# Altium integrated library Altium_WE-XTAL (rev21a).IntLib: 324 symbols (part 1 of 5)
Pins are listed as number, name and electrical type; pins without a type are passive.

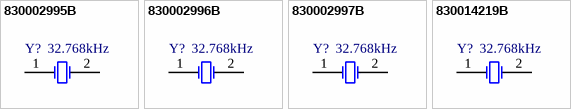
[diagram p0: symbols 830002995B to 830014219B]

## 830002995B
designator Y?, comment 32.768kHz
WE-XTAL Watch Crystal, THT, WATCH, 32.768kHz, +/-20ppm; Manufacturer Part Number: 830002995B; Manufacturer: Wurth Elektronik; Load Capacitance: 12.5pF; ComponentLink1Description: Manufacturer; ComponentLink1URL: http://www.we-online.de; ComponentLink2Description: Datasheet; ComponentLink2URL: https://katalog.we-online.com/pbs/datasheet/830002995B.pdf; Operating Temperature: -40 to +85degC; Packaging: Bulk; Published Date: July 2020; Size: WATCH; Frequency Stability: -; Frequency: 32.768kHz; Frequency Tolerance: +/-20ppm; Mounting Technology: THT
footprint WE-XTAL_WATCH_830002995B
pins: 1 OSC1, 2 OSC2

## 830002996B
designator Y?, comment 32.768kHz
WE-XTAL Watch Crystal, THT, WATCH, 32.768kHz, +/-15ppm; Manufacturer Part Number: 830002996B; Manufacturer: Wurth Elektronik; Load Capacitance: 12.5pF; ComponentLink1Description: Manufacturer; ComponentLink1URL: http://www.we-online.de; ComponentLink2Description: Datasheet; ComponentLink2URL: https://katalog.we-online.com/pbs/datasheet/830002996B.pdf; Operating Temperature: -40 to +85degC; Packaging: Bulk; Published Date: July 2020; Size: WATCH; Frequency Stability: -; Frequency: 32.768kHz; Frequency Tolerance: +/-15ppm; Mounting Technology: THT
footprint WE-XTAL_WATCH_830002996B
pins: 1 OSC1, 2 OSC2

## 830002997B
designator Y?, comment 32.768kHz
WE-XTAL Watch Crystal, THT, WATCH, 32.768kHz, +/-20ppm; Manufacturer Part Number: 830002997B; Manufacturer: Wurth Elektronik; Load Capacitance: 12.5pF; ComponentLink1Description: Manufacturer; ComponentLink1URL: http://www.we-online.de; ComponentLink2Description: Datasheet; ComponentLink2URL: https://katalog.we-online.com/pbs/datasheet/830002997B.pdf; Operating Temperature: -40 to +85degC; Packaging: Bulk; Published Date: July 2020; Size: WATCH; Frequency Stability: -; Frequency: 32.768kHz; Frequency Tolerance: +/-20ppm; Mounting Technology: THT
footprint WE-XTAL_WATCH_830002997B
pins: 1 OSC1, 2 OSC2

## 830014219B
designator Y?, comment 32.768kHz
WE-XTAL Watch Crystal, THT, WATCH, 32.768kHz, +/-20ppm; Manufacturer Part Number: 830014219B; Manufacturer: Wurth Elektronik; Load Capacitance: 6pF; ComponentLink1Description: Manufacturer; ComponentLink1URL: http://www.we-online.de; ComponentLink2Description: Datasheet; ComponentLink2URL: https://katalog.we-online.com/pbs/datasheet/830014219B.pdf; Operating Temperature: -40 to +85degC; Packaging: Bulk; Published Date: July 2020; Size: WATCH; Frequency Stability: -; Frequency: 32.768kHz; Frequency Tolerance: +/-20ppm; Mounting Technology: THT
footprint WE-XTAL_WATCH_830014219B (Quartz Crystal, size WATCH, body diameter 2mm)
pins: 1 OSC1, 2 OSC2


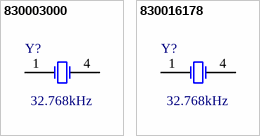
[diagram p1: symbols 830003000 to 830016178]

## 830003000
designator Y?, comment 32.768kHz
WE-XTAL Watch Crystal, SMT, 85SMX, 32.768kHz, +/-20ppm; Manufacturer Part Number: 830003000; Manufacturer: Wurth Elektronik; Load Capacitance: 12.5pF; ComponentLink1Description: Manufacturer; ComponentLink1URL: http://www.we-online.de; ComponentLink2Description: Datasheet; ComponentLink2URL: https://katalog.we-online.com/pbs/datasheet/830003000.pdf; Operating Temperature: -40 to +85degC; Packaging: Tape and Reel; Published Date: July 2020; Size: 85SMX; Frequency Stability: -; Frequency: 32.768kHz; Frequency Tolerance: +/-20ppm; Mounting Technology: SMT
footprint WE-XTAL_85SMX (Quartz Crystal, size 85SMX, body 8.7x3.2mm)
pins: 1 Crystal, 4 Crystal

## 830016178
designator Y?, comment 32.768kHz
WE-XTAL Watch Crystal, SMT, 85SMX, 32.768kHz, +/-20ppm; Manufacturer Part Number: 830016178; Manufacturer: Wurth Elektronik; Load Capacitance: 6pF; ComponentLink1Description: Manufacturer; ComponentLink1URL: http://www.we-online.de; ComponentLink2Description: Datasheet; ComponentLink2URL: https://katalog.we-online.com/pbs/datasheet/830016178.pdf; Operating Temperature: -40 to +85degC; Packaging: Tape and Reel; Published Date: July 2020; Size: 85SMX; Frequency Stability: -; Frequency: 32.768kHz; Frequency Tolerance: +/-20ppm; Mounting Technology: SMT
footprint WE-XTAL_85SMX
pins: 1 Crystal, 4 Crystal


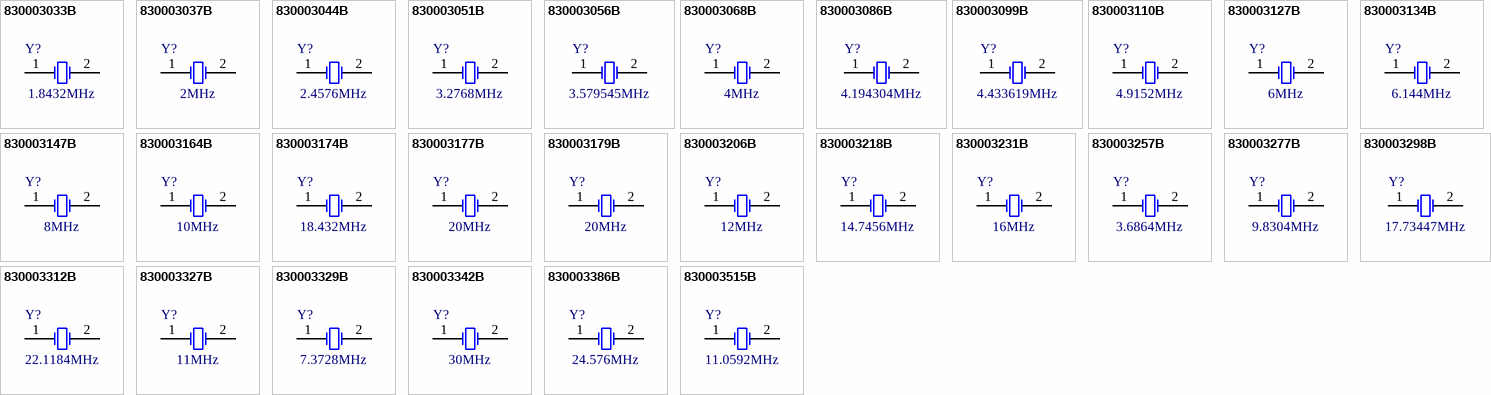
[diagram p2: symbols 830003033B to 830003515B]

## 830003033B
designator Y?, comment 1.8432MHz
WE-XTAL Quartz Crystal, THT, HC49, 1.8432MHz, +/-20ppm; Manufacturer Part Number: 830003033B; Manufacturer: Wurth Elektronik; Frequency Stability: +/-50ppm; Load Capacitance: 30pF; ComponentLink1Description: Manufacturer; ComponentLink1URL: http://www.we-online.de; ComponentLink2Description: Datasheet; ComponentLink2URL: https://katalog.we-online.com/pbs/datasheet/830003033B.pdf; Operating Temperature: -10 to +60degC; Packaging: Bulk; Published Date: July 2020; Size: HC49; Frequency: 1.8432MHz; Frequency Tolerance: +/-20ppm; Mounting Technology: THT
footprint WE-XTAL_HC49
pins: 1 OSC1, 2 OSC2

## 830003037B
designator Y?, comment 2MHz
WE-XTAL Quartz Crystal, THT, HC49, 2MHz, +/-50ppm; Manufacturer Part Number: 830003037B; Manufacturer: Wurth Elektronik; Frequency Stability: +/-100ppm; Load Capacitance: 20pF; ComponentLink1Description: Manufacturer; ComponentLink1URL: http://www.we-online.de; ComponentLink2Description: Datasheet; ComponentLink2URL: https://katalog.we-online.com/pbs/datasheet/830003037B.pdf; Operating Temperature: 0 to +50degC; Packaging: Bulk; Published Date: July 2020; Size: HC49; Frequency: 2MHz; Frequency Tolerance: +/-50ppm; Mounting Technology: THT
footprint WE-XTAL_HC49
pins: 1 OSC1, 2 OSC2

## 830003044B
designator Y?, comment 2.4576MHz
WE-XTAL Quartz Crystal, THT, HC49, 2.4576MHz, +/-20ppm; Manufacturer Part Number: 830003044B; Manufacturer: Wurth Elektronik; Frequency Stability: +/-50ppm; Load Capacitance: 30pF; ComponentLink1Description: Manufacturer; ComponentLink1URL: http://www.we-online.de; ComponentLink2Description: Datasheet; ComponentLink2URL: https://katalog.we-online.com/pbs/datasheet/830003044B.pdf; Operating Temperature: -10 to +60degC; Packaging: Bulk; Published Date: July 2020; Size: HC49; Frequency: 2.4576MHz; Frequency Tolerance: +/-20ppm; Mounting Technology: THT
footprint WE-XTAL_HC49
pins: 1 OSC1, 2 OSC2

## 830003051B
designator Y?, comment 3.2768MHz
WE-XTAL Quartz Crystal, THT, HC49, 3.2768MHz, +/-20ppm; Manufacturer Part Number: 830003051B; Manufacturer: Wurth Elektronik; Frequency Stability: +/-30ppm; Load Capacitance: 12pF; ComponentLink1Description: Manufacturer; ComponentLink1URL: http://www.we-online.de; ComponentLink2Description: Datasheet; ComponentLink2URL: https://katalog.we-online.com/pbs/datasheet/830003051B.pdf; Operating Temperature: -10 to +60degC; Packaging: Bulk; Published Date: July 2020; Size: HC49; Frequency: 3.2768MHz; Frequency Tolerance: +/-20ppm; Mounting Technology: THT
footprint WE-XTAL_HC49
pins: 1 OSC1, 2 OSC2

## 830003056B
designator Y?, comment 3.579545MHz
WE-XTAL Quartz Crystal, THT, HC49, 3.579545MHz, +/-20ppm; Manufacturer Part Number: 830003056B; Manufacturer: Wurth Elektronik; Frequency Stability: +/-50ppm; Load Capacitance: 20pF; ComponentLink1Description: Manufacturer; ComponentLink1URL: http://www.we-online.de; ComponentLink2Description: Datasheet; ComponentLink2URL: https://katalog.we-online.com/pbs/datasheet/830003056B.pdf; Operating Temperature: -10 to +60degC; Packaging: Bulk; Published Date: July 2020; Size: HC49; Frequency: 3.579545MHz; Frequency Tolerance: +/-20ppm; Mounting Technology: THT
footprint WE-XTAL_HC49
pins: 1 OSC1, 2 OSC2

## 830003068B
designator Y?, comment 4MHz
WE-XTAL Quartz Crystal, THT, HC49, 4MHz, +/-20ppm; Manufacturer Part Number: 830003068B; Manufacturer: Wurth Elektronik; Frequency Stability: +/-50ppm; Load Capacitance: 30pF; ComponentLink1Description: Manufacturer; ComponentLink1URL: http://www.we-online.de; ComponentLink2Description: Datasheet; ComponentLink2URL: https://katalog.we-online.com/pbs/datasheet/830003068B.pdf; Operating Temperature: -10 to +60degC; Packaging: Bulk; Published Date: July 2020; Size: HC49; Frequency: 4MHz; Frequency Tolerance: +/-20ppm; Mounting Technology: THT
footprint WE-XTAL_HC49
pins: 1 OSC1, 2 OSC2

## 830003086B
designator Y?, comment 4.194304MHz
WE-XTAL Quartz Crystal, THT, HC49, 4.194304MHz, +/-20ppm; Manufacturer Part Number: 830003086B; Manufacturer: Wurth Elektronik; Frequency Stability: +/-30ppm; Load Capacitance: 12pF; ComponentLink1Description: Manufacturer; ComponentLink1URL: http://www.we-online.de; ComponentLink2Description: Datasheet; ComponentLink2URL: https://katalog.we-online.com/pbs/datasheet/830003086B.pdf; Operating Temperature: -10 to +60degC; Packaging: Bulk; Published Date: July 2020; Size: HC49; Frequency: 4.194304MHz; Frequency Tolerance: +/-20ppm; Mounting Technology: THT
footprint WE-XTAL_HC49
pins: 1 OSC1, 2 OSC2

## 830003099B
designator Y?, comment 4.433619MHz
WE-XTAL Quartz Crystal, THT, HC49, 4.433619MHz, +/-20ppm; Manufacturer Part Number: 830003099B; Manufacturer: Wurth Elektronik; Frequency Stability: +/-30ppm; Load Capacitance: 20pF; ComponentLink1Description: Manufacturer; ComponentLink1URL: http://www.we-online.de; ComponentLink2Description: Datasheet; ComponentLink2URL: https://katalog.we-online.com/pbs/datasheet/830003099B.pdf; Operating Temperature: -10 to +60degC; Packaging: Bulk; Published Date: July 2020; Size: HC49; Frequency: 4.433619MHz; Frequency Tolerance: +/-20ppm; Mounting Technology: THT
footprint WE-XTAL_HC49
pins: 1 OSC1, 2 OSC2

## 830003110B
designator Y?, comment 4.9152MHz
WE-XTAL Quartz Crystal, THT, HC49, 4.9152MHz, +/-20ppm; Manufacturer Part Number: 830003110B; Manufacturer: Wurth Elektronik; Frequency Stability: +/-50ppm; Load Capacitance: 30pF; ComponentLink1Description: Manufacturer; ComponentLink1URL: http://www.we-online.de; ComponentLink2Description: Datasheet; ComponentLink2URL: https://katalog.we-online.com/pbs/datasheet/830003110B.pdf; Operating Temperature: -10 to +60degC; Packaging: Bulk; Published Date: July 2020; Size: HC49; Frequency: 4.9152MHz; Frequency Tolerance: +/-20ppm; Mounting Technology: THT
footprint WE-XTAL_HC49
pins: 1 OSC1, 2 OSC2

## 830003127B
designator Y?, comment 6MHz
WE-XTAL Quartz Crystal, THT, HC49, 6MHz, +/-20ppm; Manufacturer Part Number: 830003127B; Manufacturer: Wurth Elektronik; Frequency Stability: +/-50ppm; Load Capacitance: 30pF; ComponentLink1Description: Manufacturer; ComponentLink1URL: http://www.we-online.de; ComponentLink2Description: Datasheet; ComponentLink2URL: https://katalog.we-online.com/pbs/datasheet/830003127B.pdf; Operating Temperature: -10 to +60degC; Packaging: Bulk; Published Date: July 2020; Size: HC49; Frequency: 6MHz; Frequency Tolerance: +/-20ppm; Mounting Technology: THT
footprint WE-XTAL_HC49
pins: 1 OSC1, 2 OSC2

## 830003134B
designator Y?, comment 6.144MHz
WE-XTAL Quartz Crystal, THT, HC49, 6.144MHz, +/-20ppm; Manufacturer Part Number: 830003134B; Manufacturer: Wurth Elektronik; Frequency Stability: +/-50ppm; Load Capacitance: 30pF; ComponentLink1Description: Manufacturer; ComponentLink1URL: http://www.we-online.de; ComponentLink2Description: Datasheet; ComponentLink2URL: https://katalog.we-online.com/pbs/datasheet/830003134B.pdf; Operating Temperature: -10 to +60degC; Packaging: Bulk; Published Date: July 2020; Size: HC49; Frequency: 6.144MHz; Frequency Tolerance: +/-20ppm; Mounting Technology: THT
footprint WE-XTAL_HC49
pins: 1 OSC1, 2 OSC2

## 830003147B
designator Y?, comment 8MHz
WE-XTAL Quartz Crystal, THT, HC49, 8MHz, +/-20ppm; Manufacturer Part Number: 830003147B; Manufacturer: Wurth Elektronik; Frequency Stability: +/-50ppm; Load Capacitance: 30pF; ComponentLink1Description: Manufacturer; ComponentLink1URL: http://www.we-online.de; ComponentLink2Description: Datasheet; ComponentLink2URL: https://katalog.we-online.com/pbs/datasheet/830003147B.pdf; Operating Temperature: -10 to +60degC; Packaging: Bulk; Published Date: July 2020; Size: HC49; Frequency: 8MHz; Frequency Tolerance: +/-20ppm; Mounting Technology: THT
footprint WE-XTAL_HC49
pins: 1 OSC1, 2 OSC2

## 830003164B
designator Y?, comment 10MHz
WE-XTAL Quartz Crystal, THT, HC49, 10MHz, +/-20ppm; Manufacturer Part Number: 830003164B; Manufacturer: Wurth Elektronik; Frequency Stability: +/-50ppm; Load Capacitance: 30pF; ComponentLink1Description: Manufacturer; ComponentLink1URL: http://www.we-online.de; ComponentLink2Description: Datasheet; ComponentLink2URL: https://katalog.we-online.com/pbs/datasheet/830003164B.pdf; Operating Temperature: -10 to +60degC; Packaging: Bulk; Published Date: July 2020; Size: HC49; Frequency: 10MHz; Frequency Tolerance: +/-20ppm; Mounting Technology: THT
footprint WE-XTAL_HC49
pins: 1 OSC1, 2 OSC2

## 830003174B
designator Y?, comment 18.432MHz
WE-XTAL Quartz Crystal, THT, HC49, 18.432MHz, +/-20ppm; Manufacturer Part Number: 830003174B; Manufacturer: Wurth Elektronik; Frequency Stability: +/-50ppm; Load Capacitance: Series Resonant; ComponentLink1Description: Manufacturer; ComponentLink1URL: http://www.we-online.de; ComponentLink2Description: Datasheet; ComponentLink2URL: https://katalog.we-online.com/pbs/datasheet/830003174B.pdf; Operating Temperature: -10 to +60degC; Packaging: Bulk; Published Date: July 2020; Size: HC49; Frequency: 18.432MHz; Frequency Tolerance: +/-20ppm; Mounting Technology: THT
footprint WE-XTAL_HC49
pins: 1 OSC1, 2 OSC2

## 830003177B
designator Y?, comment 20MHz
WE-XTAL Quartz Crystal, THT, HC49, 20MHz, +/-20ppm; Manufacturer Part Number: 830003177B; Manufacturer: Wurth Elektronik; Frequency Stability: +/-50ppm; Load Capacitance: 30pF; ComponentLink1Description: Manufacturer; ComponentLink1URL: http://www.we-online.de; ComponentLink2Description: Datasheet; ComponentLink2URL: https://katalog.we-online.com/pbs/datasheet/830003177B.pdf; Operating Temperature: -10 to +60degC; Packaging: Bulk; Published Date: July 2020; Size: HC49; Frequency: 20MHz; Frequency Tolerance: +/-20ppm; Mounting Technology: THT
footprint WE-XTAL_HC49
pins: 1 OSC1, 2 OSC2

## 830003179B
designator Y?, comment 20MHz
WE-XTAL Quartz Crystal, THT, HC49, 20MHz, +/-20ppm; Manufacturer Part Number: 830003179B; Manufacturer: Wurth Elektronik; Frequency Stability: +/-30ppm; Load Capacitance: Series Resonant; ComponentLink1Description: Manufacturer; ComponentLink1URL: http://www.we-online.de; ComponentLink2Description: Datasheet; ComponentLink2URL: https://katalog.we-online.com/pbs/datasheet/830003179B.pdf; Operating Temperature: -10 to +60degC; Packaging: Bulk; Published Date: July 2020; Size: HC49; Frequency: 20MHz; Frequency Tolerance: +/-20ppm; Mounting Technology: THT
footprint WE-XTAL_HC49
pins: 1 OSC1, 2 OSC2

## 830003206B
designator Y?, comment 12MHz
WE-XTAL Quartz Crystal, THT, HC49, 12MHz, +/-20ppm; Manufacturer Part Number: 830003206B; Manufacturer: Wurth Elektronik; Frequency Stability: +/-30ppm; Load Capacitance: 30pF; ComponentLink1Description: Manufacturer; ComponentLink1URL: http://www.we-online.de; ComponentLink2Description: Datasheet; ComponentLink2URL: https://katalog.we-online.com/pbs/datasheet/830003206B.pdf; Operating Temperature: -10 to +60degC; Packaging: Bulk; Published Date: July 2020; Size: HC49; Frequency: 12MHz; Frequency Tolerance: +/-20ppm; Mounting Technology: THT
footprint WE-XTAL_HC49
pins: 1 OSC1, 2 OSC2

## 830003218B
designator Y?, comment 14.7456MHz
WE-XTAL Quartz Crystal, THT, HC49, 14.7456MHz, +/-20ppm; Manufacturer Part Number: 830003218B; Manufacturer: Wurth Elektronik; Frequency Stability: +/-30ppm; Load Capacitance: 30pF; ComponentLink1Description: Manufacturer; ComponentLink1URL: http://www.we-online.de; ComponentLink2Description: Datasheet; ComponentLink2URL: https://katalog.we-online.com/pbs/datasheet/830003218B.pdf; Operating Temperature: -10 to +60degC; Packaging: Bulk; Published Date: July 2020; Size: HC49; Frequency: 14.7456MHz; Frequency Tolerance: +/-20ppm; Mounting Technology: THT
footprint WE-XTAL_HC49
pins: 1 OSC1, 2 OSC2

## 830003231B
designator Y?, comment 16MHz
WE-XTAL Quartz Crystal, THT, HC49, 16MHz, +/-20ppm; Manufacturer Part Number: 830003231B; Manufacturer: Wurth Elektronik; Frequency Stability: +/-30ppm; Load Capacitance: 30pF; ComponentLink1Description: Manufacturer; ComponentLink1URL: http://www.we-online.de; ComponentLink2Description: Datasheet; ComponentLink2URL: https://katalog.we-online.com/pbs/datasheet/830003231B.pdf; Operating Temperature: -10 to +60degC; Packaging: Bulk; Published Date: July 2020; Size: HC49; Frequency: 16MHz; Frequency Tolerance: +/-20ppm; Mounting Technology: THT
footprint WE-XTAL_HC49
pins: 1 OSC1, 2 OSC2

## 830003257B
designator Y?, comment 3.6864MHz
WE-XTAL Quartz Crystal, THT, HC49, 3.6864MHz, +/-20ppm; Manufacturer Part Number: 830003257B; Manufacturer: Wurth Elektronik; Frequency Stability: +/-50ppm; Load Capacitance: 30pF; ComponentLink1Description: Manufacturer; ComponentLink1URL: http://www.we-online.de; ComponentLink2Description: Datasheet; ComponentLink2URL: https://katalog.we-online.com/pbs/datasheet/830003257B.pdf; Operating Temperature: -10 to +60degC; Packaging: Bulk; Published Date: July 2020; Size: HC49; Frequency: 3.6864MHz; Frequency Tolerance: +/-20ppm; Mounting Technology: THT
footprint WE-XTAL_HC49
pins: 1 OSC1, 2 OSC2

## 830003277B
designator Y?, comment 9.8304MHz
WE-XTAL Quartz Crystal, THT, HC49, 9.8304MHz, +/-20ppm; Manufacturer Part Number: 830003277B; Manufacturer: Wurth Elektronik; Frequency Stability: +/-50ppm; Load Capacitance: 30pF; ComponentLink1Description: Manufacturer; ComponentLink1URL: http://www.we-online.de; ComponentLink2Description: Datasheet; ComponentLink2URL: https://katalog.we-online.com/pbs/datasheet/830003277B.pdf; Operating Temperature: -10 to +60degC; Packaging: Bulk; Published Date: July 2020; Size: HC49; Frequency: 9.8304MHz; Frequency Tolerance: +/-20ppm; Mounting Technology: THT
footprint WE-XTAL_HC49
pins: 1 OSC1, 2 OSC2

## 830003298B
designator Y?, comment 17.73447MHz
WE-XTAL Quartz Crystal, THT, HC49, 17.73447MHz, +/-20ppm; Manufacturer Part Number: 830003298B; Manufacturer: Wurth Elektronik; Frequency Stability: +/-30ppm; Load Capacitance: 30pF; ComponentLink1Description: Manufacturer; ComponentLink1URL: http://www.we-online.de; ComponentLink2Description: Datasheet; ComponentLink2URL: https://katalog.we-online.com/pbs/datasheet/830003298B.pdf; Operating Temperature: -10 to +60degC; Packaging: Bulk; Published Date: July 2020; Size: HC49; Frequency: 17.73447MHz; Frequency Tolerance: +/-20ppm; Mounting Technology: THT
footprint WE-XTAL_HC49
pins: 1 OSC1, 2 OSC2

## 830003312B
designator Y?, comment 22.1184MHz
WE-XTAL Quartz Crystal, THT, HC49, 22.1184MHz, +/-20ppm; Manufacturer Part Number: 830003312B; Manufacturer: Wurth Elektronik; Frequency Stability: +/-50ppm; Load Capacitance: Series Resonant; ComponentLink1Description: Manufacturer; ComponentLink1URL: http://www.we-online.de; ComponentLink2Description: Datasheet; ComponentLink2URL: https://katalog.we-online.com/pbs/datasheet/830003312B.pdf; Operating Temperature: -10 to +60degC; Packaging: Bulk; Published Date: July 2020; Size: HC49; Frequency: 22.1184MHz; Frequency Tolerance: +/-20ppm; Mounting Technology: THT
footprint WE-XTAL_HC49
pins: 1 OSC1, 2 OSC2

## 830003327B
designator Y?, comment 11MHz
WE-XTAL Quartz Crystal, THT, HC49, 11MHz, +/-20ppm; Manufacturer Part Number: 830003327B; Manufacturer: Wurth Elektronik; Frequency Stability: +/-30ppm; Load Capacitance: 30pF; ComponentLink1Description: Manufacturer; ComponentLink1URL: http://www.we-online.de; ComponentLink2Description: Datasheet; ComponentLink2URL: https://katalog.we-online.com/pbs/datasheet/830003327B.pdf; Operating Temperature: -10 to +60degC; Packaging: Bulk; Published Date: July 2020; Size: HC49; Frequency: 11MHz; Frequency Tolerance: +/-20ppm; Mounting Technology: THT
footprint WE-XTAL_HC49
pins: 1 OSC1, 2 OSC2

## 830003329B
designator Y?, comment 7.3728MHz
WE-XTAL Quartz Crystal, THT, HC49, 7.3728MHz, +/-20ppm; Manufacturer Part Number: 830003329B; Manufacturer: Wurth Elektronik; Frequency Stability: +/-50ppm; Load Capacitance: 30pF; ComponentLink1Description: Manufacturer; ComponentLink1URL: http://www.we-online.de; ComponentLink2Description: Datasheet; ComponentLink2URL: https://katalog.we-online.com/pbs/datasheet/830003329B.pdf; Operating Temperature: -10 to +60degC; Packaging: Bulk; Published Date: July 2020; Size: HC49; Frequency: 7.3728MHz; Frequency Tolerance: +/-20ppm; Mounting Technology: THT
footprint WE-XTAL_HC49
pins: 1 OSC1, 2 OSC2

## 830003342B
designator Y?, comment 30MHz
WE-XTAL Quartz Crystal, THT, HC49, 30MHz, +/-20ppm; Manufacturer Part Number: 830003342B; Manufacturer: Wurth Elektronik; Frequency Stability: +/-50ppm; Load Capacitance: Series Resonant; ComponentLink1Description: Manufacturer; ComponentLink1URL: http://www.we-online.de; ComponentLink2Description: Datasheet; ComponentLink2URL: https://katalog.we-online.com/pbs/datasheet/830003342B.pdf; Operating Temperature: -10 to +60degC; Packaging: Bulk; Published Date: July 2020; Size: HC49; Frequency: 30MHz; Frequency Tolerance: +/-20ppm; Mounting Technology: THT
footprint WE-XTAL_HC49
pins: 1 OSC1, 2 OSC2

## 830003386B
designator Y?, comment 24.576MHz
WE-XTAL Quartz Crystal, THT, HC49, 24.576MHz, +/-20ppm; Manufacturer Part Number: 830003386B; Manufacturer: Wurth Elektronik; Frequency Stability: +/-50ppm; Load Capacitance: 30pF; ComponentLink1Description: Manufacturer; ComponentLink1URL: http://www.we-online.de; ComponentLink2Description: Datasheet; ComponentLink2URL: https://katalog.we-online.com/pbs/datasheet/830003386B.pdf; Operating Temperature: -10 to +60degC; Packaging: Bulk; Published Date: July 2020; Size: HC49; Frequency: 24.576MHz; Frequency Tolerance: +/-20ppm; Mounting Technology: THT
footprint WE-XTAL_HC49
pins: 1 OSC1, 2 OSC2

## 830003515B
designator Y?, comment 11.0592MHz
WE-XTAL Quartz Crystal, THT, HC49, 11.0592MHz, +/-20ppm; Manufacturer Part Number: 830003515B; Manufacturer: Wurth Elektronik; Frequency Stability: +/-30ppm; Load Capacitance: 20pF; ComponentLink1Description: Manufacturer; ComponentLink1URL: http://www.we-online.de; ComponentLink2Description: Datasheet; ComponentLink2URL: https://katalog.we-online.com/pbs/datasheet/830003515B.pdf; Operating Temperature: -10 to +60degC; Packaging: Bulk; Published Date: July 2020; Size: HC49; Frequency: 11.0592MHz; Frequency Tolerance: +/-20ppm; Mounting Technology: THT
footprint WE-XTAL_HC49
pins: 1 OSC1, 2 OSC2


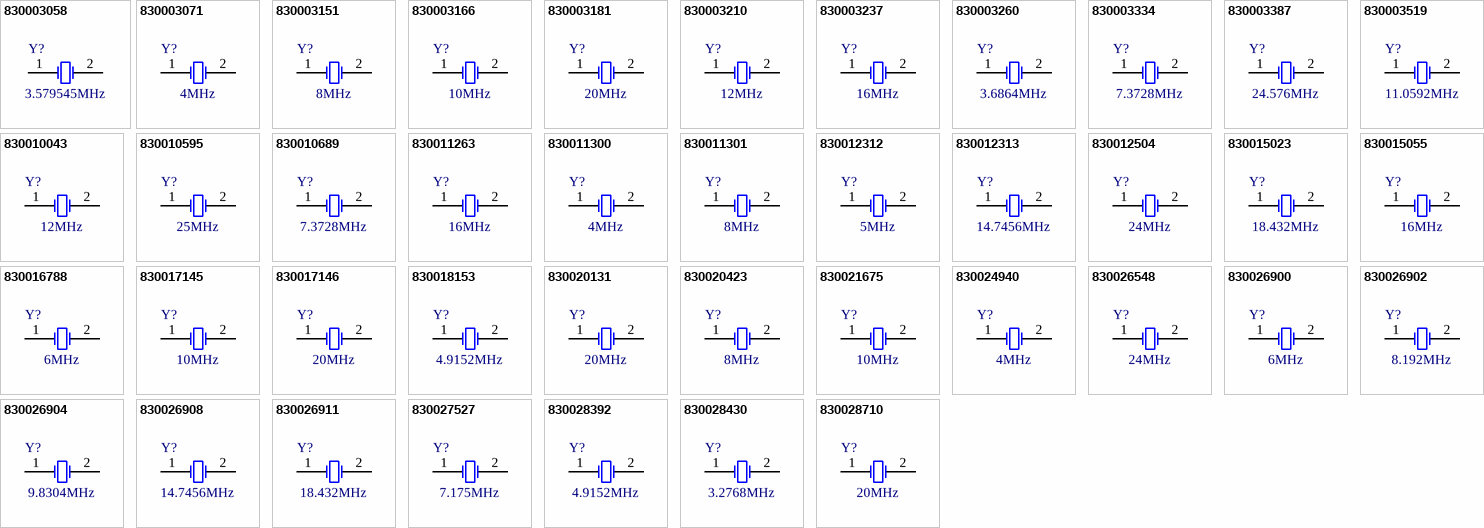
[diagram p3: symbols 830003058 to 830028710]

## 830003058
designator Y?, comment 3.579545MHz
WE-XTAL Quartz Crystal, SMT, HC49/4HSMX, 3.579545MHz, +/-30ppm; Manufacturer Part Number: 830003058; Manufacturer: Wurth Elektronik; Frequency Stability: +/-50ppm; Load Capacitance: 16pF; ComponentLink1Description: Manufacturer; ComponentLink1URL: http://www.we-online.de; ComponentLink2Description: Datasheet; ComponentLink2URL: https://katalog.we-online.com/pbs/datasheet/830003058.pdf; Operating Temperature: -10 to +60degC; Packaging: Tape and Reel; Published Date: July 2020; Size: HC49/4HSMX; Frequency: 3.579545MHz; Frequency Tolerance: +/-30ppm; Mounting Technology: SMT
footprint WE-XTAL_HC49/4HSMX
pins: 1 OSC1, 2 OSC2

## 830003071
designator Y?, comment 4MHz
WE-XTAL Quartz Crystal, SMT, HC49/4HSMX, 4MHz, +/-30ppm; Manufacturer Part Number: 830003071; Manufacturer: Wurth Elektronik; Frequency Stability: +/-50ppm; Load Capacitance: 16pF; ComponentLink1Description: Manufacturer; ComponentLink1URL: http://www.we-online.de; ComponentLink2Description: Datasheet; ComponentLink2URL: https://katalog.we-online.com/pbs/datasheet/830003071.pdf; Operating Temperature: -10 to +60degC; Packaging: Tape and Reel; Published Date: July 2020; Size: HC49/4HSMX; Frequency: 4MHz; Frequency Tolerance: +/-30ppm; Mounting Technology: SMT
footprint WE-XTAL_HC49/4HSMX
pins: 1 OSC1, 2 OSC2

## 830003151
designator Y?, comment 8MHz
WE-XTAL Quartz Crystal, SMT, HC49/4HSMX, 8MHz, +/-30ppm; Manufacturer Part Number: 830003151; Manufacturer: Wurth Elektronik; Frequency Stability: +/-50ppm; Load Capacitance: 16pF; ComponentLink1Description: Manufacturer; ComponentLink1URL: http://www.we-online.de; ComponentLink2Description: Datasheet; ComponentLink2URL: https://katalog.we-online.com/pbs/datasheet/830003151.pdf; Operating Temperature: -10 to +60degC; Packaging: Tape and Reel; Published Date: July 2020; Size: HC49/4HSMX; Frequency: 8MHz; Frequency Tolerance: +/-30ppm; Mounting Technology: SMT
footprint WE-XTAL_HC49/4HSMX
pins: 1 OSC1, 2 OSC2

## 830003166
designator Y?, comment 10MHz
WE-XTAL Quartz Crystal, SMT, HC49/4HSMX, 10MHz, +/-30ppm; Manufacturer Part Number: 830003166; Manufacturer: Wurth Elektronik; Frequency Stability: +/-50ppm; Load Capacitance: 16pF; ComponentLink1Description: Manufacturer; ComponentLink1URL: http://www.we-online.de; ComponentLink2Description: Datasheet; ComponentLink2URL: https://katalog.we-online.com/pbs/datasheet/830003166.pdf; Operating Temperature: -10 to +60degC; Packaging: Tape and Reel; Published Date: July 2020; Size: HC49/4HSMX; Frequency: 10MHz; Frequency Tolerance: +/-30ppm; Mounting Technology: SMT
footprint WE-XTAL_HC49/4HSMX
pins: 1 OSC1, 2 OSC2

## 830003181
designator Y?, comment 20MHz
WE-XTAL Quartz Crystal, SMT, HC49/4HSMX, 20MHz, +/-30ppm; Manufacturer Part Number: 830003181; Manufacturer: Wurth Elektronik; Frequency Stability: +/-50ppm; Load Capacitance: 16pF; ComponentLink1Description: Manufacturer; ComponentLink1URL: http://www.we-online.de; ComponentLink2Description: Datasheet; ComponentLink2URL: https://katalog.we-online.com/pbs/datasheet/830003181.pdf; Operating Temperature: -10 to +60degC; Packaging: Tape and Reel; Published Date: July 2020; Size: HC49/4HSMX; Frequency: 20MHz; Frequency Tolerance: +/-30ppm; Mounting Technology: SMT
footprint WE-XTAL_HC49/4HSMX
pins: 1 OSC1, 2 OSC2

## 830003210
designator Y?, comment 12MHz
WE-XTAL Quartz Crystal, SMT, HC49/4HSMX, 12MHz, +/-30ppm; Manufacturer Part Number: 830003210; Manufacturer: Wurth Elektronik; Frequency Stability: +/-50ppm; Load Capacitance: 16pF; ComponentLink1Description: Manufacturer; ComponentLink1URL: http://www.we-online.de; ComponentLink2Description: Datasheet; ComponentLink2URL: https://katalog.we-online.com/pbs/datasheet/830003210.pdf; Operating Temperature: -10 to +60degC; Packaging: Tape and Reel; Published Date: July 2020; Size: HC49/4HSMX; Frequency: 12MHz; Frequency Tolerance: +/-30ppm; Mounting Technology: SMT
footprint WE-XTAL_HC49/4HSMX
pins: 1 OSC1, 2 OSC2

## 830003237
designator Y?, comment 16MHz
WE-XTAL Quartz Crystal, SMT, HC49/4HSMX, 16MHz, +/-30ppm; Manufacturer Part Number: 830003237; Manufacturer: Wurth Elektronik; Frequency Stability: +/-50ppm; Load Capacitance: 16pF; ComponentLink1Description: Manufacturer; ComponentLink1URL: http://www.we-online.de; ComponentLink2Description: Datasheet; ComponentLink2URL: https://katalog.we-online.com/pbs/datasheet/830003237.pdf; Operating Temperature: -10 to +60degC; Packaging: Tape and Reel; Published Date: July 2020; Size: HC49/4HSMX; Frequency: 16MHz; Frequency Tolerance: +/-30ppm; Mounting Technology: SMT
footprint WE-XTAL_HC49/4HSMX
pins: 1 OSC1, 2 OSC2

## 830003260
designator Y?, comment 3.6864MHz
WE-XTAL Quartz Crystal, SMT, HC49/4HSMX, 3.6864MHz, +/-30ppm; Manufacturer Part Number: 830003260; Manufacturer: Wurth Elektronik; Frequency Stability: +/-50ppm; Load Capacitance: 16pF; ComponentLink1Description: Manufacturer; ComponentLink1URL: http://www.we-online.de; ComponentLink2Description: Datasheet; ComponentLink2URL: https://katalog.we-online.com/pbs/datasheet/830003260.pdf; Operating Temperature: -10 to +60degC; Packaging: Tape and Reel; Published Date: July 2020; Size: HC49/4HSMX; Frequency: 3.6864MHz; Frequency Tolerance: +/-30ppm; Mounting Technology: SMT
footprint WE-XTAL_HC49/4HSMX
pins: 1 OSC1, 2 OSC2

## 830003334
designator Y?, comment 7.3728MHz
WE-XTAL Quartz Crystal, SMT, HC49/4HSMX, 7.3728MHz, +/-30ppm; Manufacturer Part Number: 830003334; Manufacturer: Wurth Elektronik; Frequency Stability: +/-50ppm; Load Capacitance: 16pF; ComponentLink1Description: Manufacturer; ComponentLink1URL: http://www.we-online.de; ComponentLink2Description: Datasheet; ComponentLink2URL: https://katalog.we-online.com/pbs/datasheet/830003334.pdf; Operating Temperature: -10 to +60degC; Packaging: Tape and Reel; Published Date: July 2020; Size: HC49/4HSMX; Frequency: 7.3728MHz; Frequency Tolerance: +/-30ppm; Mounting Technology: SMT
footprint WE-XTAL_HC49/4HSMX
pins: 1 OSC1, 2 OSC2

## 830003387
designator Y?, comment 24.576MHz
WE-XTAL Quartz Crystal, SMT, HC49/4HSMX, 24.576MHz, +/-30ppm; Manufacturer Part Number: 830003387; Manufacturer: Wurth Elektronik; Frequency Stability: +/-50ppm; Load Capacitance: 20pF; ComponentLink1Description: Manufacturer; ComponentLink1URL: http://www.we-online.de; ComponentLink2Description: Datasheet; ComponentLink2URL: https://katalog.we-online.com/pbs/datasheet/830003387.pdf; Operating Temperature: -10 to +60degC; Packaging: Tape and Reel; Published Date: July 2020; Size: HC49/4HSMX; Frequency: 24.576MHz; Frequency Tolerance: +/-30ppm; Mounting Technology: SMT
footprint WE-XTAL_HC49/4HSMX
pins: 1 OSC1, 2 OSC2

## 830003519
designator Y?, comment 11.0592MHz
WE-XTAL Quartz Crystal, SMT, HC49/4HSMX, 11.0592MHz, +/-30ppm; Manufacturer Part Number: 830003519; Manufacturer: Wurth Elektronik; Frequency Stability: +/-50ppm; Load Capacitance: 16pF; ComponentLink1Description: Manufacturer; ComponentLink1URL: http://www.we-online.de; ComponentLink2Description: Datasheet; ComponentLink2URL: https://katalog.we-online.com/pbs/datasheet/830003519.pdf; Operating Temperature: -10 to +60degC; Packaging: Tape and Reel; Published Date: July 2020; Size: HC49/4HSMX; Frequency: 11.0592MHz; Frequency Tolerance: +/-30ppm; Mounting Technology: SMT
footprint WE-XTAL_HC49/4HSMX
pins: 1 OSC1, 2 OSC2

## 830010043
designator Y?, comment 12MHz
WE-XTAL Quartz Crystal, SMT, HC49/4HSMX, 12MHz, +/-30ppm; Manufacturer Part Number: 830010043; Manufacturer: Wurth Elektronik; Frequency Stability: +/-50ppm; Load Capacitance: 30pF; ComponentLink1Description: Manufacturer; ComponentLink1URL: http://www.we-online.de; ComponentLink2Description: Datasheet; ComponentLink2URL: https://katalog.we-online.com/pbs/datasheet/830010043.pdf; Operating Temperature: -10 to +60degC; Packaging: Tape and Reel; Published Date: July 2020; Size: HC49/4HSMX; Frequency: 12MHz; Frequency Tolerance: +/-30ppm; Mounting Technology: SMT
footprint WE-XTAL_HC49/4HSMX
pins: 1 OSC1, 2 OSC2

## 830010595
designator Y?, comment 25MHz
WE-XTAL Quartz Crystal, SMT, HC49/4HSMX, 25MHz, +/-30ppm; Manufacturer Part Number: 830010595; Manufacturer: Wurth Elektronik; Frequency Stability: +/-50ppm; Load Capacitance: 16pF; ComponentLink1Description: Manufacturer; ComponentLink1URL: http://www.we-online.de; ComponentLink2Description: Datasheet; ComponentLink2URL: https://katalog.we-online.com/pbs/datasheet/830010595.pdf; Operating Temperature: -10 to +60degC; Packaging: Tape and Reel; Published Date: July 2020; Size: HC49/4HSMX; Frequency: 25MHz; Frequency Tolerance: +/-30ppm; Mounting Technology: SMT
footprint WE-XTAL_HC49/4HSMX
pins: 1 OSC1, 2 OSC2

## 830010689
designator Y?, comment 7.3728MHz
WE-XTAL Quartz Crystal, SMT, HC49/4HSMX, 7.3728MHz, +/-30ppm; Manufacturer Part Number: 830010689; Manufacturer: Wurth Elektronik; Frequency Stability: +/-50ppm; Load Capacitance: 30pF; ComponentLink1Description: Manufacturer; ComponentLink1URL: http://www.we-online.de; ComponentLink2Description: Datasheet; ComponentLink2URL: https://katalog.we-online.com/pbs/datasheet/830010689.pdf; Operating Temperature: -10 to +60degC; Packaging: Tape and Reel; Published Date: July 2020; Size: HC49/4HSMX; Frequency: 7.3728MHz; Frequency Tolerance: +/-30ppm; Mounting Technology: SMT
footprint WE-XTAL_HC49/4HSMX
pins: 1 OSC1, 2 OSC2

## 830011263
designator Y?, comment 16MHz
WE-XTAL Quartz Crystal, SMT, HC49/4HSMX, 16MHz, +/-30ppm; Manufacturer Part Number: 830011263; Manufacturer: Wurth Elektronik; Frequency Stability: +/-50ppm; Load Capacitance: 30pF; ComponentLink1Description: Manufacturer; ComponentLink1URL: http://www.we-online.de; ComponentLink2Description: Datasheet; ComponentLink2URL: https://katalog.we-online.com/pbs/datasheet/830011263.pdf; Operating Temperature: -10 to +60degC; Packaging: Tape and Reel; Published Date: July 2020; Size: HC49/4HSMX; Frequency: 16MHz; Frequency Tolerance: +/-30ppm; Mounting Technology: SMT
footprint WE-XTAL_HC49/4HSMX
pins: 1 OSC1, 2 OSC2

## 830011300
designator Y?, comment 4MHz
WE-XTAL Quartz Crystal, SMT, HC49/4HSMX, 4MHz, +/-30ppm; Manufacturer Part Number: 830011300; Manufacturer: Wurth Elektronik; Frequency Stability: +/-50ppm; Load Capacitance: 30pF; ComponentLink1Description: Manufacturer; ComponentLink1URL: http://www.we-online.de; ComponentLink2Description: Datasheet; ComponentLink2URL: https://katalog.we-online.com/pbs/datasheet/830011300.pdf; Operating Temperature: -10 to +60degC; Packaging: Tape and Reel; Published Date: July 2020; Size: HC49/4HSMX; Frequency: 4MHz; Frequency Tolerance: +/-30ppm; Mounting Technology: SMT
footprint WE-XTAL_HC49/4HSMX
pins: 1 OSC1, 2 OSC2

## 830011301
designator Y?, comment 8MHz
WE-XTAL Quartz Crystal, SMT, HC49/4HSMX, 8MHz, +/-30ppm; Manufacturer Part Number: 830011301; Manufacturer: Wurth Elektronik; Frequency Stability: +/-50ppm; Load Capacitance: 30pF; ComponentLink1Description: Manufacturer; ComponentLink1URL: http://www.we-online.de; ComponentLink2Description: Datasheet; ComponentLink2URL: https://katalog.we-online.com/pbs/datasheet/830011301.pdf; Operating Temperature: -10 to +60degC; Packaging: Tape and Reel; Published Date: July 2020; Size: HC49/4HSMX; Frequency: 8MHz; Frequency Tolerance: +/-30ppm; Mounting Technology: SMT
footprint WE-XTAL_HC49/4HSMX
pins: 1 OSC1, 2 OSC2

## 830012312
designator Y?, comment 5MHz
WE-XTAL Quartz Crystal, SMT, HC49/4HSMX, 5MHz, +/-30ppm; Manufacturer Part Number: 830012312; Manufacturer: Wurth Elektronik; Frequency Stability: +/-50ppm; Load Capacitance: 30pF; ComponentLink1Description: Manufacturer; ComponentLink1URL: http://www.we-online.de; ComponentLink2Description: Datasheet; ComponentLink2URL: https://katalog.we-online.com/pbs/datasheet/830012312.pdf; Operating Temperature: -10 to +60degC; Packaging: Tape and Reel; Published Date: July 2020; Size: HC49/4HSMX; Frequency: 5MHz; Frequency Tolerance: +/-30ppm; Mounting Technology: SMT
footprint WE-XTAL_HC49/4HSMX
pins: 1 OSC1, 2 OSC2

## 830012313
designator Y?, comment 14.7456MHz
WE-XTAL Quartz Crystal, SMT, HC49/4HSMX, 14.7456MHz, +/-30ppm; Manufacturer Part Number: 830012313; Manufacturer: Wurth Elektronik; Frequency Stability: +/-50ppm; Load Capacitance: 30pF; ComponentLink1Description: Manufacturer; ComponentLink1URL: http://www.we-online.de; ComponentLink2Description: Datasheet; ComponentLink2URL: https://katalog.we-online.com/pbs/datasheet/830012313.pdf; Operating Temperature: -10 to +60degC; Packaging: Tape and Reel; Published Date: July 2020; Size: HC49/4HSMX; Frequency: 14.7456MHz; Frequency Tolerance: +/-30ppm; Mounting Technology: SMT
footprint WE-XTAL_HC49/4HSMX
pins: 1 OSC1, 2 OSC2

## 830012504
designator Y?, comment 24MHz
WE-XTAL Quartz Crystal, SMT, HC49/4HSMX, 24MHz, +/-30ppm; Manufacturer Part Number: 830012504; Manufacturer: Wurth Elektronik; Frequency Stability: +/-50ppm; Load Capacitance: 16pF; ComponentLink1Description: Manufacturer; ComponentLink1URL: http://www.we-online.de; ComponentLink2Description: Datasheet; ComponentLink2URL: https://katalog.we-online.com/pbs/datasheet/830012504.pdf; Operating Temperature: -10 to +60degC; Packaging: Tape and Reel; Published Date: July 2020; Size: HC49/4HSMX; Frequency: 24MHz; Frequency Tolerance: +/-30ppm; Mounting Technology: SMT
footprint WE-XTAL_HC49/4HSMX
pins: 1 OSC1, 2 OSC2

## 830015023
designator Y?, comment 18.432MHz
WE-XTAL Quartz Crystal, SMT, HC49/4HSMX, 18.432MHz, +/-30ppm; Manufacturer Part Number: 830015023; Manufacturer: Wurth Elektronik; Frequency Stability: +/-50ppm; Load Capacitance: 30pF; ComponentLink1Description: Manufacturer; ComponentLink1URL: http://www.we-online.de; ComponentLink2Description: Datasheet; ComponentLink2URL: https://katalog.we-online.com/pbs/datasheet/830015023.pdf; Operating Temperature: -20 to +70degC; Packaging: Tape and Reel; Published Date: July 2020; Size: HC49/4HSMX; Frequency: 18.432MHz; Frequency Tolerance: +/-30ppm; Mounting Technology: SMT
footprint WE-XTAL_HC49/4HSMX
pins: 1 OSC1, 2 OSC2

## 830015055
designator Y?, comment 16MHz
WE-XTAL Quartz Crystal, SMT, HC49/4HSMX, 16MHz, +/-30ppm; Manufacturer Part Number: 830015055; Manufacturer: Wurth Elektronik; Frequency Stability: +/-50ppm; Load Capacitance: 20pF; ComponentLink1Description: Manufacturer; ComponentLink1URL: http://www.we-online.de; ComponentLink2Description: Datasheet; ComponentLink2URL: https://katalog.we-online.com/pbs/datasheet/830015055.pdf; Operating Temperature: -10 to +60degC; Packaging: Tape and Reel; Published Date: July 2020; Size: HC49/4HSMX; Frequency: 16MHz; Frequency Tolerance: +/-30ppm; Mounting Technology: SMT
footprint WE-XTAL_HC49/4HSMX
pins: 1 OSC1, 2 OSC2

## 830016788
designator Y?, comment 6MHz
WE-XTAL Quartz Crystal, SMT, HC49/4HSMX, 6MHz, +/-30ppm; Manufacturer Part Number: 830016788; Manufacturer: Wurth Elektronik; Frequency Stability: +/-50ppm; Load Capacitance: 30pF; ComponentLink1Description: Manufacturer; ComponentLink1URL: http://www.we-online.de; ComponentLink2Description: Datasheet; ComponentLink2URL: https://katalog.we-online.com/pbs/datasheet/830016788.pdf; Operating Temperature: -10 to +60degC; Packaging: Tape and Reel; Published Date: July 2020; Size: HC49/4HSMX; Frequency: 6MHz; Frequency Tolerance: +/-30ppm; Mounting Technology: SMT
footprint WE-XTAL_HC49/4HSMX
pins: 1 OSC1, 2 OSC2

## 830017145
designator Y?, comment 10MHz
WE-XTAL Quartz Crystal, SMT, HC49/4HSMX, 10MHz, +/-30ppm; Manufacturer Part Number: 830017145; Manufacturer: Wurth Elektronik; Frequency Stability: +/-50ppm; Load Capacitance: 30pF; ComponentLink1Description: Manufacturer; ComponentLink1URL: http://www.we-online.de; ComponentLink2Description: Datasheet; ComponentLink2URL: https://katalog.we-online.com/pbs/datasheet/830017145.pdf; Operating Temperature: -10 to +60degC; Packaging: Tape and Reel; Published Date: July 2020; Size: HC49/4HSMX; Frequency: 10MHz; Frequency Tolerance: +/-30ppm; Mounting Technology: SMT
footprint WE-XTAL_HC49/4HSMX
pins: 1 OSC1, 2 OSC2

## 830017146
designator Y?, comment 20MHz
WE-XTAL Quartz Crystal, SMT, HC49/4HSMX, 20MHz, +/-30ppm; Manufacturer Part Number: 830017146; Manufacturer: Wurth Elektronik; Frequency Stability: +/-50ppm; Load Capacitance: 30pF; ComponentLink1Description: Manufacturer; ComponentLink1URL: http://www.we-online.de; ComponentLink2Description: Datasheet; ComponentLink2URL: https://katalog.we-online.com/pbs/datasheet/830017146.pdf; Operating Temperature: -10 to +60degC; Packaging: Tape and Reel; Published Date: July 2020; Size: HC49/4HSMX; Frequency: 20MHz; Frequency Tolerance: +/-30ppm; Mounting Technology: SMT
footprint WE-XTAL_HC49/4HSMX
pins: 1 OSC1, 2 OSC2

## 830018153
designator Y?, comment 4.9152MHz
WE-XTAL Quartz Crystal, SMT, HC49/4HSMX, 4.9152MHz, +/-30ppm; Manufacturer Part Number: 830018153; Manufacturer: Wurth Elektronik; Frequency Stability: +/-50ppm; Load Capacitance: 16pF; ComponentLink1Description: Manufacturer; ComponentLink1URL: http://www.we-online.de; ComponentLink2Description: Datasheet; ComponentLink2URL: https://katalog.we-online.com/pbs/datasheet/830018153.pdf; Operating Temperature: -10 to +60degC; Packaging: Tape and Reel; Published Date: July 2020; Size: HC49/4HSMX; Frequency: 4.9152MHz; Frequency Tolerance: +/-30ppm; Mounting Technology: SMT
footprint WE-XTAL_HC49/4HSMX
pins: 1 OSC1, 2 OSC2

## 830020131
designator Y?, comment 20MHz
WE-XTAL Quartz Crystal, SMT, HC49/4HSMX, 20MHz, +/-30ppm; Manufacturer Part Number: 830020131; Manufacturer: Wurth Elektronik; Frequency Stability: +/-50ppm; Load Capacitance: 18pF; ComponentLink1Description: Manufacturer; ComponentLink1URL: http://www.we-online.de; ComponentLink2Description: Datasheet; ComponentLink2URL: https://katalog.we-online.com/pbs/datasheet/830020131.pdf; Operating Temperature: -20 to +70degC; Packaging: Tape and Reel; Published Date: July 2020; Size: HC49/4HSMX; Frequency: 20MHz; Frequency Tolerance: +/-30ppm; Mounting Technology: SMT
footprint WE-XTAL_HC49/4HSMX
pins: 1 OSC1, 2 OSC2

## 830020423
designator Y?, comment 8MHz
WE-XTAL Quartz Crystal, SMT, HC49/4HSMX, 8MHz, +/-30ppm; Manufacturer Part Number: 830020423; Manufacturer: Wurth Elektronik; Frequency Stability: +/-50ppm; Load Capacitance: 18pF; ComponentLink1Description: Manufacturer; ComponentLink1URL: http://www.we-online.de; ComponentLink2Description: Datasheet; ComponentLink2URL: https://katalog.we-online.com/pbs/datasheet/830020423.pdf; Operating Temperature: -20 to +70degC; Packaging: Tape and Reel; Published Date: July 2020; Size: HC49/4HSMX; Frequency: 8MHz; Frequency Tolerance: +/-30ppm; Mounting Technology: SMT
footprint WE-XTAL_HC49/4HSMX
pins: 1 OSC1, 2 OSC2

## 830021675
designator Y?, comment 10MHz
WE-XTAL Quartz Crystal, SMT, HC49/4HSMX, 10MHz, +/-30ppm; Manufacturer Part Number: 830021675; Manufacturer: Wurth Elektronik; Frequency Stability: +/-50ppm; Load Capacitance: 18pF; ComponentLink1Description: Manufacturer; ComponentLink1URL: http://www.we-online.de; ComponentLink2Description: Datasheet; ComponentLink2URL: https://katalog.we-online.com/pbs/datasheet/830021675.pdf; Operating Temperature: -20 to +70degC; Packaging: Tape and Reel; Published Date: July 2020; Size: HC49/4HSMX; Frequency: 10MHz; Frequency Tolerance: +/-30ppm; Mounting Technology: SMT
footprint WE-XTAL_HC49/4HSMX
pins: 1 OSC1, 2 OSC2

## 830024940
designator Y?, comment 4MHz
WE-XTAL Quartz Crystal, SMT, HC49/4HSMX, 4MHz, +/-30ppm; Manufacturer Part Number: 830024940; Manufacturer: Wurth Elektronik; Frequency Stability: +/-50ppm; Load Capacitance: 18pF; ComponentLink1Description: Manufacturer; ComponentLink1URL: http://www.we-online.de; ComponentLink2Description: Datasheet; ComponentLink2URL: https://katalog.we-online.com/pbs/datasheet/830024940.pdf; Operating Temperature: -20 to +70degC; Packaging: Tape and Reel; Published Date: July 2020; Size: HC49/4HSMX; Frequency: 4MHz; Frequency Tolerance: +/-30ppm; Mounting Technology: SMT
footprint WE-XTAL_HC49/4HSMX
pins: 1 OSC1, 2 OSC2

## 830026548
designator Y?, comment 24MHz
WE-XTAL Quartz Crystal, SMT, HC49/4HSMX, 24MHz, +/-30ppm; Manufacturer Part Number: 830026548; Manufacturer: Wurth Elektronik; Frequency Stability: +/-50ppm; Load Capacitance: 18pF; ComponentLink1Description: Manufacturer; ComponentLink1URL: http://www.we-online.de; ComponentLink2Description: Datasheet; ComponentLink2URL: https://katalog.we-online.com/pbs/datasheet/830026548.pdf; Operating Temperature: -20 to +70degC; Packaging: Tape and Reel; Published Date: July 2020; Size: HC49/4HSMX; Frequency: 24MHz; Frequency Tolerance: +/-30ppm; Mounting Technology: SMT
footprint WE-XTAL_HC49/4HSMX
pins: 1 OSC1, 2 OSC2

## 830026900
designator Y?, comment 6MHz
WE-XTAL Quartz Crystal, SMT, HC49/4HSMX, 6MHz, +/-20ppm; Manufacturer Part Number: 830026900; Manufacturer: Wurth Elektronik; Frequency Stability: +/-50ppm; Load Capacitance: 16pF; ComponentLink1Description: Manufacturer; ComponentLink1URL: http://www.we-online.de; ComponentLink2Description: Datasheet; ComponentLink2URL: https://katalog.we-online.com/pbs/datasheet/830026900.pdf; Operating Temperature: -10 to +60degC; Packaging: Tape and Reel; Published Date: July 2020; Size: HC49/4HSMX; Frequency: 6MHz; Frequency Tolerance: +/-20ppm; Mounting Technology: SMT
footprint WE-XTAL_HC49/4HSMX
pins: 1 OSC1, 2 OSC2

## 830026902
designator Y?, comment 8.192MHz
WE-XTAL Quartz Crystal, SMT, HC49/4HSMX, 8.192MHz, +/-20ppm; Manufacturer Part Number: 830026902; Manufacturer: Wurth Elektronik; Frequency Stability: +/-50ppm; Load Capacitance: 16pF; ComponentLink1Description: Manufacturer; ComponentLink1URL: http://www.we-online.de; ComponentLink2Description: Datasheet; ComponentLink2URL: https://katalog.we-online.com/pbs/datasheet/830026902.pdf; Operating Temperature: -10 to +60degC; Packaging: Tape and Reel; Published Date: July 2020; Size: HC49/4HSMX; Frequency: 8.192MHz; Frequency Tolerance: +/-20ppm; Mounting Technology: SMT
footprint WE-XTAL_HC49/4HSMX
pins: 1 OSC1, 2 OSC2

## 830026904
designator Y?, comment 9.8304MHz
WE-XTAL Quartz Crystal, SMT, HC49/4HSMX, 9.8304MHz, +/-20ppm; Manufacturer Part Number: 830026904; Manufacturer: Wurth Elektronik; Frequency Stability: +/-50ppm; Load Capacitance: 16pF; ComponentLink1Description: Manufacturer; ComponentLink1URL: http://www.we-online.de; ComponentLink2Description: Datasheet; ComponentLink2URL: https://katalog.we-online.com/pbs/datasheet/830026904.pdf; Operating Temperature: -10 to +60degC; Packaging: Tape and Reel; Published Date: July 2020; Size: HC49/4HSMX; Frequency: 9.8304MHz; Frequency Tolerance: +/-20ppm; Mounting Technology: SMT
footprint WE-XTAL_HC49/4HSMX
pins: 1 OSC1, 2 OSC2

## 830026908
designator Y?, comment 14.7456MHz
WE-XTAL Quartz Crystal, SMT, HC49/4HSMX, 14.7456MHz, +/-20ppm; Manufacturer Part Number: 830026908; Manufacturer: Wurth Elektronik; Frequency Stability: +/-50ppm; Load Capacitance: 16pF; ComponentLink1Description: Manufacturer; ComponentLink1URL: http://www.we-online.de; ComponentLink2Description: Datasheet; ComponentLink2URL: https://katalog.we-online.com/pbs/datasheet/830026908.pdf; Operating Temperature: -10 to +60degC; Packaging: Tape and Reel; Published Date: July 2020; Size: HC49/4HSMX; Frequency: 14.7456MHz; Frequency Tolerance: +/-20ppm; Mounting Technology: SMT
footprint WE-XTAL_HC49/4HSMX
pins: 1 OSC1, 2 OSC2

## 830026911
designator Y?, comment 18.432MHz
WE-XTAL Quartz Crystal, SMT, HC49/4HSMX, 18.432MHz, +/-20ppm; Manufacturer Part Number: 830026911; Manufacturer: Wurth Elektronik; Frequency Stability: +/-50ppm; Load Capacitance: 16pF; ComponentLink1Description: Manufacturer; ComponentLink1URL: http://www.we-online.de; ComponentLink2Description: Datasheet; ComponentLink2URL: https://katalog.we-online.com/pbs/datasheet/830026911.pdf; Operating Temperature: -10 to +60degC; Packaging: Tape and Reel; Published Date: July 2020; Size: HC49/4HSMX; Frequency: 18.432MHz; Frequency Tolerance: +/-20ppm; Mounting Technology: SMT
footprint WE-XTAL_HC49/4HSMX
pins: 1 OSC1, 2 OSC2

## 830027527
designator Y?, comment 7.175MHz
WE-XTAL Quartz Crystal, SMT, HC49/4HSMX, 7.175MHz, +/-50ppm; Manufacturer Part Number: 830027527; Manufacturer: Wurth Elektronik; Frequency Stability: +/-100ppm; Load Capacitance: 16pF; ComponentLink1Description: Manufacturer; ComponentLink1URL: http://www.we-online.de; ComponentLink2Description: Datasheet; ComponentLink2URL: https://katalog.we-online.com/pbs/datasheet/830027527.pdf; Operating Temperature: -55 to +105degC; Packaging: Tape and Reel; Published Date: July 2020; Size: HC49/4HSMX; Frequency: 7.175MHz; Frequency Tolerance: +/-50ppm; Mounting Technology: SMT
footprint WE-XTAL_HC49/4HSMX
pins: 1 OSC1, 2 OSC2

## 830028392
designator Y?, comment 4.9152MHz
WE-XTAL Quartz Crystal, SMT, HC49/4HSMX, 4.9152MHz, +/-30ppm; Manufacturer Part Number: 830028392; Manufacturer: Wurth Elektronik; Frequency Stability: +/-50ppm; Load Capacitance: 18pF; ComponentLink1Description: Manufacturer; ComponentLink1URL: http://www.we-online.de; ComponentLink2Description: Datasheet; ComponentLink2URL: https://katalog.we-online.com/pbs/datasheet/830028392.pdf; Operating Temperature: -20 to +70degC; Packaging: Tape and Reel; Published Date: July 2020; Size: HC49/4HSMX; Frequency: 4.9152MHz; Frequency Tolerance: +/-30ppm; Mounting Technology: SMT
footprint WE-XTAL_HC49/4HSMX
pins: 1 OSC1, 2 OSC2

## 830028430
designator Y?, comment 3.2768MHz
WE-XTAL Quartz Crystal, SMT, HC49/4HSMX, 3.2768MHz, +/-30ppm; Manufacturer Part Number: 830028430; Manufacturer: Wurth Elektronik; Load Capacitance: 18pF; ComponentLink1Description: Manufacturer; ComponentLink1URL: http://www.we-online.de; ComponentLink2Description: Datasheet; ComponentLink2URL: https://katalog.we-online.com/pbs/datasheet/830028430.pdf; Operating Temperature: -20 to +70degC; Packaging: Tape and Reel; Published Date: July 2020; Size: HC49/4HSMX; Frequency Stability: +/-30ppm; Frequency: 3.2768MHz; Frequency Tolerance: +/-30ppm; Mounting Technology: SMT
footprint WE-XTAL_HC49/4HSMX
pins: 1 OSC1, 2 OSC2

## 830028710
designator Y?, comment 20MHz
WE-XTAL Quartz Crystal, SMT, HC49/4HSMX, 20MHz, +/-30ppm; Manufacturer Part Number: 830028710; Manufacturer: Wurth Elektronik; Frequency Stability: +/-50ppm; Load Capacitance: 18pF; ComponentLink1Description: Manufacturer; ComponentLink1URL: http://www.we-online.de; ComponentLink2Description: Datasheet; ComponentLink2URL: https://katalog.we-online.com/pbs/datasheet/830028710.pdf; Operating Temperature: -40 to +85degC; Packaging: Tape and Reel; Published Date: July 2020; Size: HC49/4HSMX; Frequency: 20MHz; Frequency Tolerance: +/-30ppm; Mounting Technology: SMT
footprint WE-XTAL_HC49/4HSMX
pins: 1 OSC1, 2 OSC2

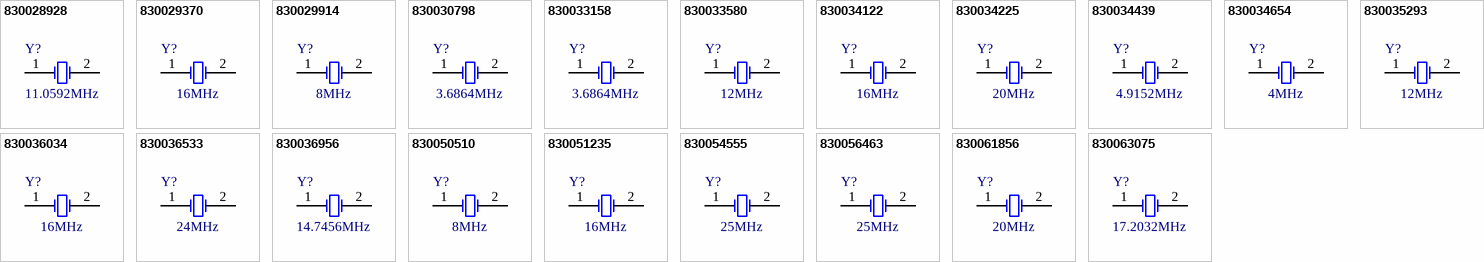
[diagram p4: symbols 830028928 to 830063075]

## 830028928
designator Y?, comment 11.0592MHz
WE-XTAL Quartz Crystal, SMT, HC49/4HSMX, 11.0592MHz, +/-30ppm; Manufacturer Part Number: 830028928; Manufacturer: Wurth Elektronik; Frequency Stability: +/-50ppm; Load Capacitance: 20pF; ComponentLink1Description: Manufacturer; ComponentLink1URL: http://www.we-online.de; ComponentLink2Description: Datasheet; ComponentLink2URL: https://katalog.we-online.com/pbs/datasheet/830028928.pdf; Operating Temperature: -20 to +70degC; Packaging: Tape and Reel; Published Date: July 2020; Size: HC49/4HSMX; Frequency: 11.0592MHz; Frequency Tolerance: +/-30ppm; Mounting Technology: SMT
footprint WE-XTAL_HC49/4HSMX
pins: 1 OSC1, 2 OSC2